# Altium footprint library ECS327613X.PcbLib: 1 footprints
Each footprint in its own frame and in the unit in brackets; x right, y up, seen from the top. Pads: shape width x height; smd on the part's side, far side on the other; paste and mask are expansions set on the pad; w line width, h text height; cw(c..) or ccw(c..) is an arc to the next point about the centre after c.
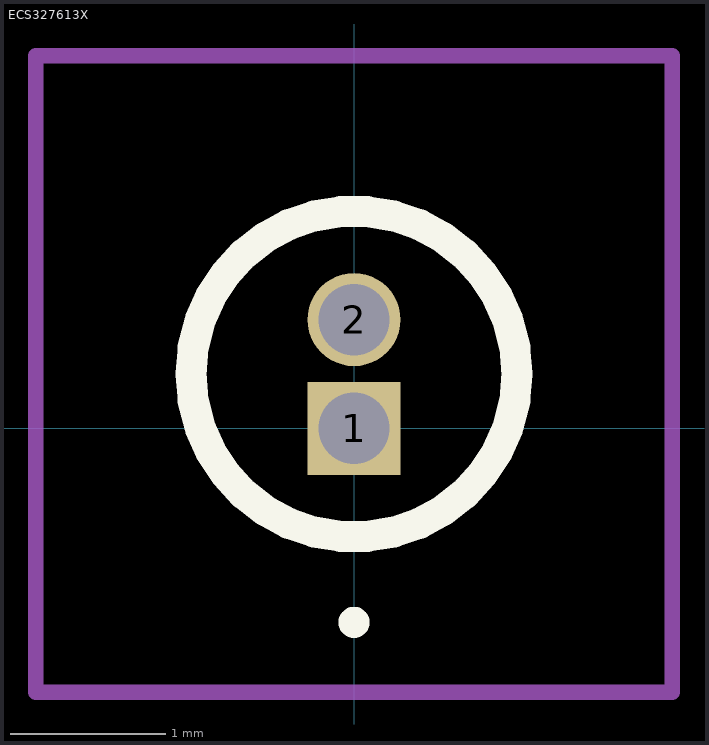
[diagram p0: the footprint, top view; thin cyan lines are the x and y axes]

## ECS327613X [mm]
pads (2):
  rect 0.6x0.6 hole 0.46: 1(0,0)
  round 0.6 hole 0.46: 2(0,0.7)
Top Overlay:
  lines w0.1: 0,-1.3 cw(c0,-1.25) 0,-1.2 ; 0,-1.3 0,-1.3 ; 0,-1.3 ccw(c0,-1.25) 0,-1.2 ; 0,-1.2 0,-1.2
  lines w0.2: -1.05,0.35 -1.05,0.35 ; -1.05,0.35 ccw(c0,0.35) 1.05,0.35 ; -1.05,0.35 cw(c0,0.35) 1.05,0.35 ; 1.05,0.35 1.05,0.35
Mechanical 15:
  lines w0.1: -1.05,0.35 -1.05,0.35 ; -1.05,0.35 ccw(c0,0.35) 1.05,0.35 ; -1.05,0.35 cw(c0,0.35) 1.05,0.35 ; 1.05,0.35 1.05,0.35
Mechanical 20:
  lines w0.1: -2.05,-1.7 2.05,-1.7 2.05,2.4 -2.05,2.4 -2.05,-1.7